# Altium schematic symbol library Transformers.SchLib: 3 symbols
Pins are listed as number, name and electrical type; pins without a type are passive.

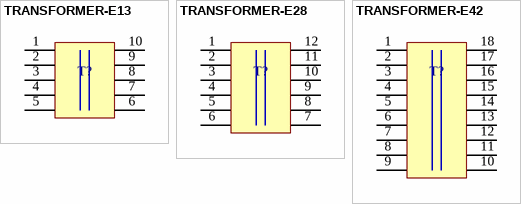
[diagram p0: symbols TRANSFORMER-E13 to TRANSFORMER-E42]

## TRANSFORMER-E13
designator T?, comment E13  (value not drawn)
footprint TRANSFORMER-E13
pins: 1, 2, 3, 4, 5, 6, 7, 8, 9, 10

## TRANSFORMER-E28
designator T?, comment E28  (value not drawn)
footprint TRANSFORMER-E28
pins: 1, 2, 3, 4, 5, 6, 7, 8, 9, 10, 11, 12

## TRANSFORMER-E42
designator T?, comment E28  (value not drawn)
footprint TRANSFORMER-E42
pins: 1, 2, 3, 4, 5, 6, 7, 8, 9, 10, 11, 12, 13, 14, 15, 16, 17, 18